# EAGLE library part 5747844-4 (library 5747844-4)
CONN D-SUB RCPT 9POS R/A SOLDER
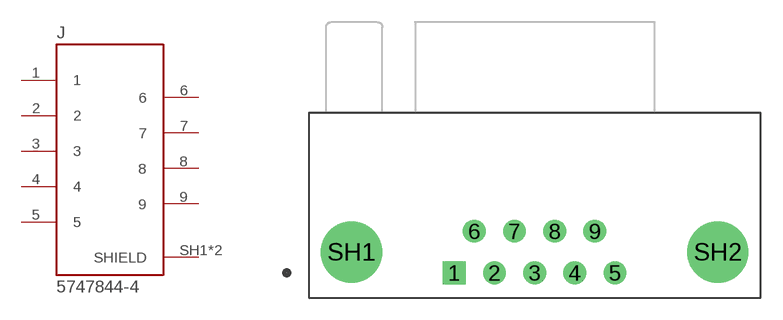
[diagram p0: symbol with the pads of TE_5747844-4; footprint TE_5747844-4]

Designator prefix J

## 5747844-4 (Availability: Unavailable; Centerline_Pitch: 2.74 mm[.108 in]; Comment: 5747844-4; Description: Connector D-Subminiature Receptacle 9 Position 2.74mm Solder Right Angle Through Hole 9 Terminal 1 Port Tray; EU_RoHS_Compliance: Compliant; MF: TE Connectivity; MP: 5747844-4; Number_of_Positions: 9; Package: None; Price: None; Product_Type: Connector; TE_purchase_URL: https://www.te.com/usa-en/product-5747844-4.html?te_bu=Cor&te_type=disp&te_campaign=seda_glo_cor-seda-global-disp-prtnr-fy19-seda-model-bom-cta_sma-317_1&elqCampaignId=32493)  [TE_5747844-4]
1  1  pas
2  2  pas
3  3  pas
4  4  pas
5  5  pas
6  6  pas
7  7  pas
8  8  pas
9  9  pas
SH1  SHIELD  pas
SH2  SHIELD  pas

## Footprint TE_5747844-4 (pad centres in mm)
drill 1.04 square: 1 0,0
drill 1.04: 2 2.74,0; 3 5.48,0; 4 8.22,0; 5 10.96,0; 6 1.37,2.84; 7 4.11,2.84; 8 6.85,2.84; 9 9.59,2.84
drill 3.17: SH1 -7.02,1.42; SH2 17.97,1.42